# Altium footprint library HSOP.PcbLib: 4 footprints
Each footprint in its own frame and in the unit in brackets; x right, y up, seen from the top. Pads: shape width x height; smd on the part's side, far side on the other; paste and mask are expansions set on the pad; w line width, h text height; cw(c..) or ccw(c..) is an arc to the next point about the centre after c.
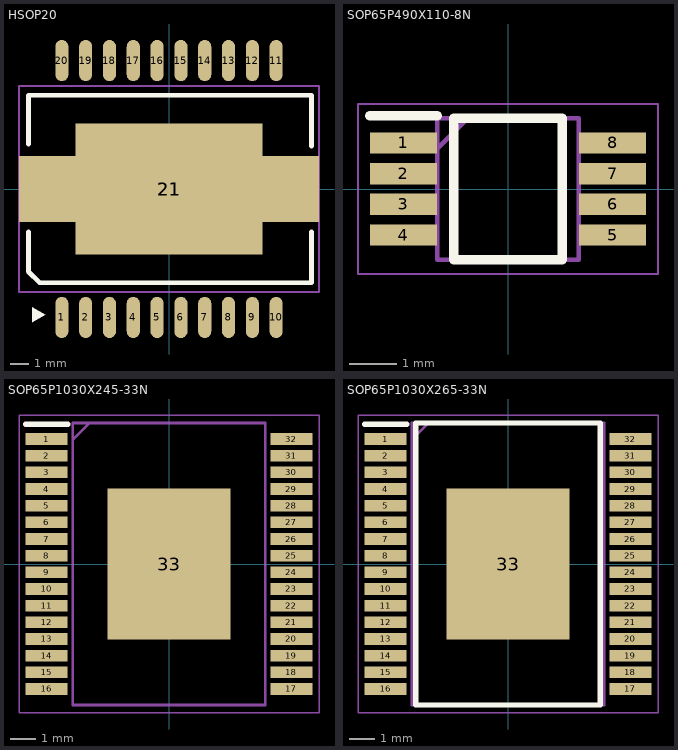
[diagram p0: the footprints below, top view; thin cyan lines are the x and y axes]

## HSOP20 [mm]
pads (22):
  oval 0.7x2.2 smd: 1(-5.715,-6.85) 2(-4.445,-6.85) 3(-3.175,-6.85) 4(-1.905,-6.85) 5(-0.635,-6.85) 6(0.635,-6.85) 7(1.905,-6.85) 8(3.175,-6.85) 9(4.445,-6.85) 10(5.715,-6.85) 11(5.715,6.85) 12(4.445,6.85) 13(3.175,6.85) 14(1.905,6.85) 15(0.635,6.85) 16(-0.635,6.85) 17(-1.905,6.85) 18(-3.175,6.85) 19(-4.445,6.85) 20(-5.715,6.85)
  rect 16x3.5 smd: 21(0,0)
  rect 10x7 smd: 21(0,0)
Top Overlay:
  region: -6.6,-6.7 -7.3,-6.3 -7.3,-7.1
  lines w0.254: -7.5,-2.3 -7.5,-4.4 -6.9,-5 7.6,-5 7.6,-2.3 ; -7.5,2.4 -7.5,5 7.6,5 7.6,2.3
Mechanical 15:
  lines w0.1: -8,-5.5 -8,5.5 8,5.5 8,-5.5 -8,-5.5
3D body "SO-20.STEP": height 3.6, standoff 0, extent -8,-7.2 8,7.2

## SOP65P490X110-8N [mm]
pads (8):
  rect 1.425x0.45 smd: 1(-2.212,0.975) 2(-2.212,0.325) 3(-2.212,-0.325) 4(-2.212,-0.975) 5(2.212,-0.975) 6(2.212,-0.325) 7(2.212,0.325) 8(2.212,0.975)
Top Overlay:
  lines w0.2: -2.925,1.55 -1.5,1.55 ; -1.15,-1.5 -1.15,1.5 1.15,1.5 1.15,-1.5 -1.15,-1.5
Mechanical 13:
  lines w0.1: -1.5,0.85 -0.85,1.5 ; -1.5,-1.5 -1.5,1.5 1.5,1.5 1.5,-1.5 -1.5,-1.5
Mechanical 15:
  lines w0.05: -3.175,-1.8 -3.175,1.8 3.175,1.8 3.175,-1.8 -3.175,-1.8
3D body "PCF8563TS_4,118.stp": height 1.1, standoff 0, extent -2.45,-1.5 2.45,1.5

## SOP65P1030X245-33N [mm]
pads (33):
  rect 1.65x0.45 smd: 1(-4.775,4.875) 2(-4.775,4.225) 3(-4.775,3.575) 4(-4.775,2.925) 5(-4.775,2.275) 6(-4.775,1.625) 7(-4.775,0.975) 8(-4.775,0.325) 9(-4.775,-0.325) 10(-4.775,-0.975) 11(-4.775,-1.625) 12(-4.775,-2.275) 13(-4.775,-2.925) 14(-4.775,-3.575) 15(-4.775,-4.225) 16(-4.775,-4.875) 17(4.775,-4.875) 18(4.775,-4.225) 19(4.775,-3.575) 20(4.775,-2.925) 21(4.775,-2.275) 22(4.775,-1.625) 23(4.775,-0.975) 24(4.775,-0.325) 25(4.775,0.325) 26(4.775,0.975) 27(4.775,1.625) 28(4.775,2.275) 29(4.775,2.925) 30(4.775,3.575) 31(4.775,4.225) 32(4.775,4.875)
  rect 4.8x5.9 smd: 33(0,0)
Top Overlay:
  lines w0.2: -5.6,5.45 -3.95,5.45
Mechanical 13:
  lines w0.1: -3.75,4.85 -3.1,5.5 ; -3.75,-5.5 3.75,-5.5 3.75,5.5 -3.75,5.5 -3.75,-5.5
Mechanical 15:
  lines w0.05: -5.85,-5.8 5.85,-5.8 5.85,5.8 -5.85,5.8 -5.85,-5.8
3D body "MC33879BPEKR2.stp": height 2.45, standoff 0, extent -5.15,-5.5 5.15,5.5

## SOP65P1030X265-33N [mm]
pads (33):
  rect 1.65x0.45 smd: 1(-4.775,4.875) 2(-4.775,4.225) 3(-4.775,3.575) 4(-4.775,2.925) 5(-4.775,2.275) 6(-4.775,1.625) 7(-4.775,0.975) 8(-4.775,0.325) 9(-4.775,-0.325) 10(-4.775,-0.975) 11(-4.775,-1.625) 12(-4.775,-2.275) 13(-4.775,-2.925) 14(-4.775,-3.575) 15(-4.775,-4.225) 16(-4.775,-4.875) 17(4.775,-4.875) 18(4.775,-4.225) 19(4.775,-3.575) 20(4.775,-2.925) 21(4.775,-2.275) 22(4.775,-1.625) 23(4.775,-0.975) 24(4.775,-0.325) 25(4.775,0.325) 26(4.775,0.975) 27(4.775,1.625) 28(4.775,2.275) 29(4.775,2.925) 30(4.775,3.575) 31(4.775,4.225) 32(4.775,4.875)
  rect 4.8x5.9 smd: 33(0,0)
Top Overlay:
  lines w0.2: -5.6,5.45 -3.95,5.45 ; -3.6,-5.5 -3.6,5.5 3.6,5.5 3.6,-5.5 -3.6,-5.5
Mechanical 13:
  lines w0.1: -3.75,4.85 -3.1,5.5 ; -3.75,-5.5 -3.75,5.5 3.75,5.5 3.75,-5.5 -3.75,-5.5
Mechanical 15:
  lines w0.05: -5.85,-5.8 -5.85,5.8 5.85,5.8 5.85,-5.8 -5.85,-5.8
3D body "MC33972TEW.stp": height 2.65, standoff 0, extent -5.15,-5.5 5.15,5.5